# EAGLE library part TJA1051T/3 (library TJA1051T_3)
High-speed CAN transceiver The TJA1051 is a high-speed CAN transceiver that provides an interface between a Controller Area Network (CAN) protocol controller and the physical two-wire CAN bus. The transceiver is designed for high-speed (up to 1 Mbit/s) CAN applications in the automotive industry, providing differential transmit and receive capability to (a microcontroller with) a CAN protocol controller. The TJA1051 belongs to the third generation of high-speed CAN transceivers from NXP Semiconductors, offering significant improvements over first- and second-generation devices such as the TJA1050. It offers improved ElectroMagnetic Compatibility (EMC) and ElectroStatic Discharge (ESD) performance, and also features: Ideal passive behavior to the CAN bus when the supply voltage is off TJA1051T/3 and TJA1051TK/3 can be interfaced directly to microcontrollers with supply voltages from 3 V to 5 V These features make the TJA1051 an excellent choice for all types of HS-CAN networks, in nodes that do not require a standby mode with wake-up capability via the bus. AAL Eindhoven MK Check availability <https://pricing.snapeda.com/parts/TJA1051T/3/NXP%20USA/view-part?ref=eda>
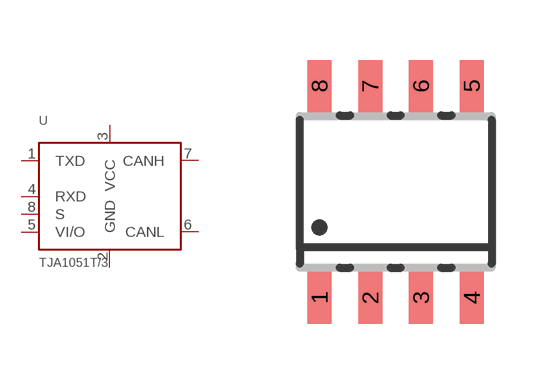
[diagram p0: symbol with the pads of SOT96-1; footprint SOT96-1]

Designator prefix U

## TJA1051T/3 (Availability: In Stock; Check_prices: https://www.snapeda.com/parts/TJA1051T/3/NXP+USA+Inc./view-part/?ref=eda; Description: 1/1 Transceiver Half CANbus 8-SO; MF: NXP USA; MP: TJA1051T/3; Package: SO-8 NXP Semiconductors; Price: None; Purchase-URL: https://www.snapeda.com/api/url_track_click_mouser/?unipart_id=626380&manufacturer=NXP USA&part_name=TJA1051T/3&search_term=tja1051t-3; SnapEDA_Link: https://www.snapeda.com/parts/TJA1051T/3/NXP+USA+Inc./view-part/?ref=snap)  [SOT96-1]
1  TXD  out
2  GND
3  VCC
4  RXD
5  VI/O  pas
6  CANL
7  CANH
8  S  pwr

## Footprint SOT96-1 (pad centres in mm)
SOT96-1 SO8: plastic small outline package; 8 leads; body width 3.9 mm JEDEC: MS-012 IEC: 076E03
smd 0.6 x 1.3: 1 -1.905,-2.65; 2 -0.635,-2.65; 3 0.635,-2.65; 4 1.905,-2.65; 5 1.905,2.65; 6 0.635,2.65; 7 -0.635,2.65; 8 -1.905,2.65